# Altium footprint library A781MN477M1ELAS025.PcbLib: 1 footprints
Each footprint in its own frame and in the unit in brackets; x right, y up, seen from the top. Pads: shape width x height; smd on the part's side, far side on the other; paste and mask are expansions set on the pad; w line width, h text height; cw(c..) or ccw(c..) is an arc to the next point about the centre after c.
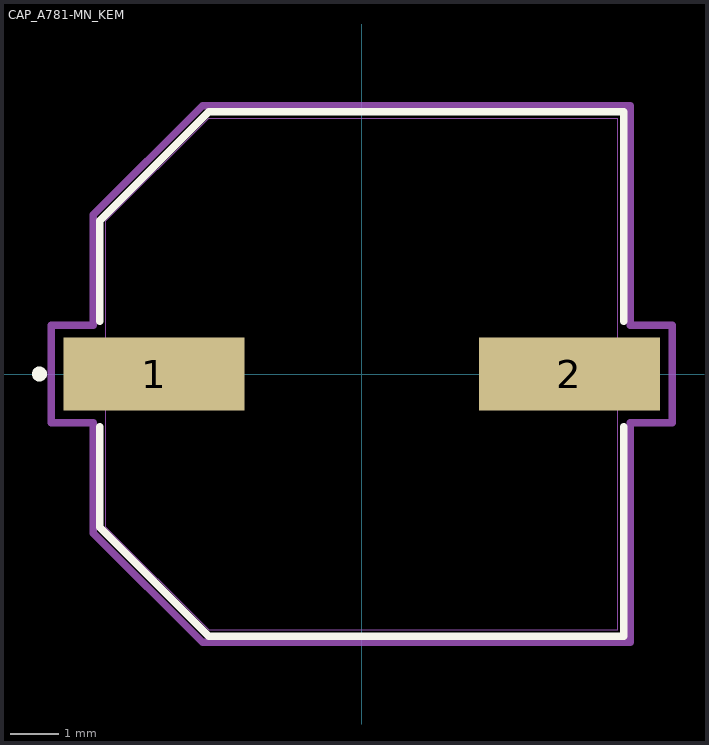
[diagram p0: the footprint, top view; thin cyan lines are the x and y axes]

## CAP_A781-MN_KEM [mil]
pads (2):
  rect 146x59 smd paste+0 mask+0: 1(-167.5,0) 2(167.5,0)
Top Overlay:
  circle w6: c-260,0 r3
  lines w6: -211.5,-42.6 -211.5,-123.5 -123.5,-211.5 211.5,-211.5 211.5,-42.6 ; -211.5,42.6 -211.5,123.5 -123.5,211.5 211.5,211.5 211.5,42.6
Mechanical 13:
  lines w1: -206.5,-123.5 -206.5,123.5 -123.5,206.5 206.5,206.5 206.5,-206.5 -123.5,-206.5 -206.5,-123.5
Mechanical 15:
  lines w6: -250.5,-39.5 -216.5,-39.5 -216.5,-128.5 -128.5,-216.5 216.5,-216.5 216.5,-39.5 250.5,-39.5 250.5,39.5 216.5,39.5 216.5,216.5 -128.5,216.5 -216.5,128.5 -216.5,39.5 -250.5,39.5 -250.5,-39.5
3D body "A781MN477M1ELAS025.step": height 397.83, standoff -15.75, extent -220.47,-206.69 220.47,206.69